# Altium footprint library INDC8566X410N.PcbLib: 1 footprints
Each footprint in its own frame and in the unit in brackets; x right, y up, seen from the top. Pads: shape width x height; smd on the part's side, far side on the other; paste and mask are expansions set on the pad; w line width, h text height; cw(c..) or ccw(c..) is an arc to the next point about the centre after c.
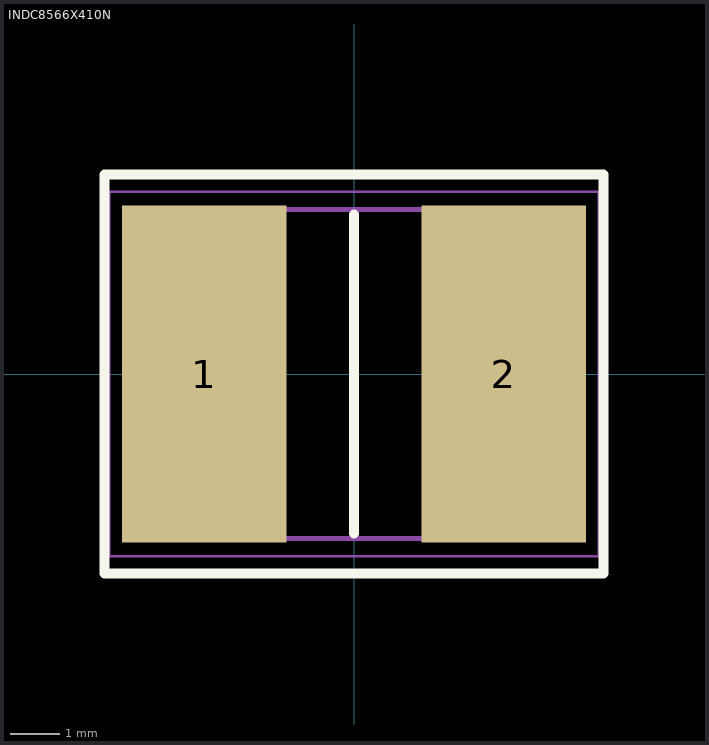
[diagram p0: the footprint, top view; thin cyan lines are the x and y axes]

## INDC8566X410N [mm]
pads (2):
  rect 3.3x6.75 smd: 1(-3,0) 2(3,0)
L26-Silk Screen Top (Multiple PADS layers...):
  lines w0.2: 0,-3.2 0,3.2 ; -5,-4 -5,4 5,4 5,-4 -5,-4
L15 (Multiple PADS layers...):
  lines w0.1: -4.25,-3.3 4.25,-3.3 4.25,3.3 -4.25,3.3 -4.25,-3.3
L20:
  lines w0.05: -4.9,-3.65 4.9,-3.65 4.9,3.65 -4.9,3.65 -4.9,-3.65